# Altium integrated library TFM-108-02-X-DH-XX.IntLib: 1 symbol
Pins are listed as number, name and electrical type; pins without a type are passive.

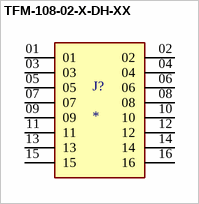
[diagram p0: symbol TFM-108-02-X-DH-XX]

## TFM-108-02-X-DH-XX
designator J?
MF: Samtec; MP: TFM-108-02-X-DH-XX; Availability: Unavailable; Price: None; Value: *; Package: None
footprint SAMTEC_TFM-108-02-X-DH-XX
pins: 01, 02, 03, 04, 05, 06, 07, 08, 09, 10, 11, 12, 13, 14, 15, 16